# Altium schematic symbol library 74LVCH1T45-Q100.Schlib: 1 symbol
Pins are listed as number, name and electrical type; pins without a type are passive.

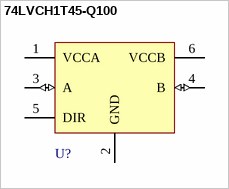
[diagram p0: symbol 74LVCH1T45-Q100]

## 74LVCH1T45-Q100
designator U?
Dual supply translating transceiver; 3-state / * 74LVCH1T45-Q100 holds unused or floating data inputs at a valid logic level
pins: 1 VCCA (power), 2 GND (power), 3 A (io), 4 B (io), 5 DIR, 6 VCCB (power)